# EAGLE library part YM3812 (library YM)
Dual In Line
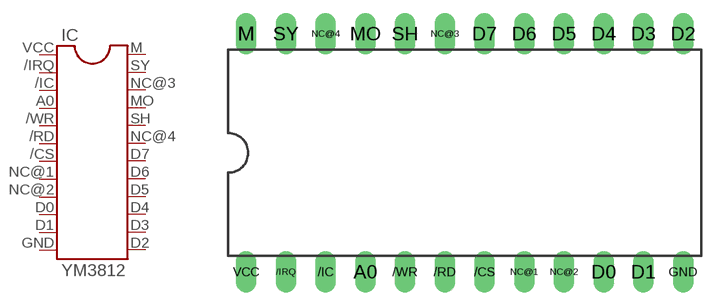
[diagram p0: symbol with the pads of YM3812; footprint YM3812]

Designator prefix IC

## YM3812  [YM3812]
/CS  /CS  pas
/IC  /IC  pas
/IRQ  /IRQ  pas
/RD  /RD  pas
/WR  /WR  pas
A0  A0  pas
D0  D0  pas
D1  D1  pas
D2  D2  pas
D3  D3  pas
D4  D4  pas
D5  D5  pas
D6  D6  pas
D7  D7  pas
GND  GND  pas
M  M  pas
MO  MO  pas
NC@1  NC  pas
NC@2  NC  pas
NC@3  NC  pas
NC@4  NC  pas
SH  SH  pas
SY  SY  pas
VCC  VCC  pas

## Footprint YM3812 (pad centres in mm)
Dual In Line Package 0.6 inch
drill 0.813 long: /CS 1.27,-7.62; /IC -8.89,-7.62; /IRQ -11.43,-7.62; /RD -1.27,-7.62; /WR -3.81,-7.62; A0 -6.35,-7.62; D0 8.89,-7.62; D1 11.43,-7.62; D2 13.97,7.62; D3 11.43,7.62; D4 8.89,7.62; D5 6.35,7.62; D6 3.81,7.62; D7 1.27,7.62; GND 13.97,-7.62; M -13.97,7.62; MO -6.35,7.62; NC@1 3.81,-7.62; NC@2 6.35,-7.62; NC@3 -1.27,7.62; NC@4 -8.89,7.62; SH -3.81,7.62; SY -11.43,7.62; VCC -13.97,-7.62